# Altium schematic symbol library 691 309 410 0xx.SchLib: 6 symbols
Pins are listed as number, name and electrical type; pins without a type are passive.

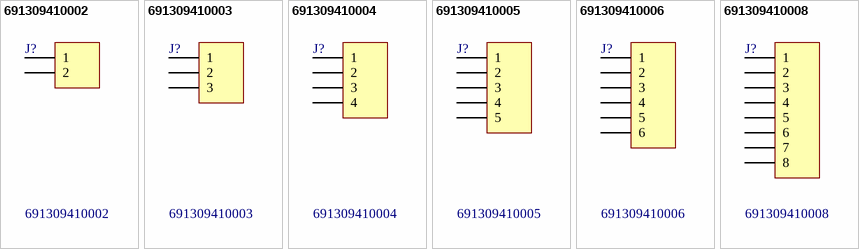
[diagram p0: symbols 691309410002 to 691309410008]

## 691309410002
designator J?
WR-TBL Terminal Blocks Serie 3094 - 7.62 mm; Manufacturer: Würth Elektronik eiSos GmbH; ComponentLink1 Description: Manufacturer; ComponentLink2 Description: Datasheet; NoPins: 02; Created Date: 11 April 2014; partNo: 691309410002; ComponentLink1URL: http://www.we-online.com; ComponentLink2URL: http://katalog.we-online.de/em/datasheet/6913094100xx.pdf; Created by: Karrer Zheng
footprint 691309410002
pins: 1, 2

## 691309410003
designator J?
WR-TBL Terminal Blocks Serie 3094 - 7.62 mm; Manufacturer: Würth Elektronik eiSos GmbH; ComponentLink1 Description: Manufacturer; ComponentLink2 Description: Datasheet; NoPins: 03; Created Date: 11 April 2014; partNo: 691309410003; ComponentLink1URL: http://www.we-online.com; ComponentLink2URL: http://katalog.we-online.de/em/datasheet/6913094100xx.pdf; Created by: Karrer Zheng
footprint 691309410003
pins: 1, 2, 3

## 691309410004
designator J?
WR-TBL Terminal Blocks Serie 3094 - 7.62 mm; Manufacturer: Würth Elektronik eiSos GmbH; ComponentLink1 Description: Manufacturer; ComponentLink2 Description: Datasheet; NoPins: 04; Created Date: 11 April 2014; partNo: 691309410004; ComponentLink1URL: http://www.we-online.com; ComponentLink2URL: http://katalog.we-online.de/em/datasheet/6913094100xx.pdf; Created by: Karrer Zheng
footprint 691309410004
pins: 1, 2, 3, 4

## 691309410005
designator J?
WR-TBL Terminal Blocks Serie 3094 - 7.62 mm; Manufacturer: Würth Elektronik eiSos GmbH; ComponentLink1 Description: Manufacturer; ComponentLink2 Description: Datasheet; NoPins: 05; Created Date: 11 April 2014; partNo: 691309410005; ComponentLink1URL: http://www.we-online.com; ComponentLink2URL: http://katalog.we-online.de/em/datasheet/6913094100xx.pdf; Created by: Karrer Zheng
footprint 691309410005
pins: 1, 2, 3, 4, 5

## 691309410006
designator J?
WR-TBL Terminal Blocks Serie 3094 - 7.62 mm; Manufacturer: Würth Elektronik eiSos GmbH; ComponentLink1 Description: Manufacturer; ComponentLink2 Description: Datasheet; NoPins: 06; Created Date: 11 April 2014; partNo: 691309410006; ComponentLink1URL: http://www.we-online.com; ComponentLink2URL: http://katalog.we-online.de/em/datasheet/6913094100xx.pdf; Created by: Karrer Zheng
footprint 691309410006
pins: 1, 2, 3, 4, 5, 6

## 691309410008
designator J?
WR-TBL Terminal Blocks Serie 3094 - 7.62 mm; Manufacturer: Würth Elektronik eiSos GmbH; ComponentLink1 Description: Manufacturer; ComponentLink2 Description: Datasheet; NoPins: 08; Created Date: 11 April 2014; partNo: 691309410008; ComponentLink1URL: http://www.we-online.com; ComponentLink2URL: http://katalog.we-online.de/em/datasheet/6913094100xx.pdf; Created by: Karrer Zheng
footprint 691309410008
pins: 1, 2, 3, 4, 5, 6, 7, 8